# EAGLE library part PAM8302A (library piboy_new)
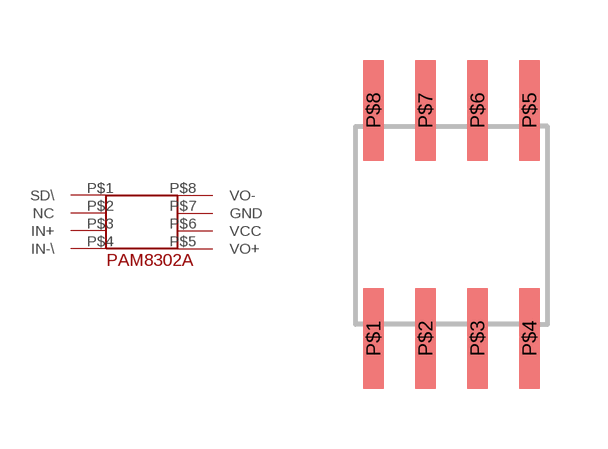
[diagram p4: symbol with the pads of PAM8302A; footprint PAM8302A]

Designator prefix -

## PAM8302A  [PAM8302A]
P$1  SD\
P$2  NC  nc
P$3  IN+  in
P$4  IN-\  in
P$5  VO+  out
P$6  VCC  pwr
P$7  GND
P$8  VO-  out

## Footprint PAM8302A (pad centres in mm)
smd 0.508 x 2.515: P$1 -1.95,-2.7; P$2 -0.65,-2.7; P$3 0.65,-2.7; P$4 1.95,-2.7; P$5 1.95,3; P$6 0.65,3; P$7 -0.65,3; P$8 -1.95,3